# Altium schematic symbol library CAP,Tant,10uF,16V,1206.Schlib: 1 symbol
Pins are listed as number, name and electrical type; pins without a type are passive.

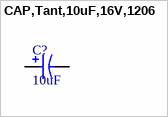
[diagram p0: symbol CAP,Tant,10uF,16V,1206]

## CAP,Tant,10uF,16V,1206
designator C?, comment 10uF
10 µF Molded Tantalum Capacitors 16 V 1206 (3216 Metric) 3Ohm
pins: 1, 2